# Altium schematic symbol library Gate_Driver.SchLib: 1 symbol
Pins are listed as number, name and electrical type; pins without a type are passive.

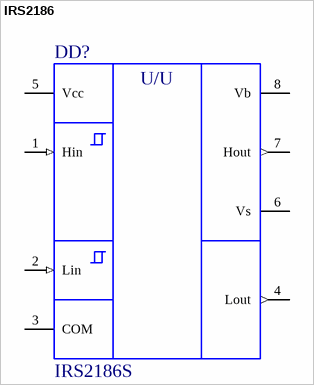
[diagram p0: symbol IRS2186]

## IRS2186
designator DD?, comment IRS2186S
High and Low Side Driver Iout=4A Uoffset=600V; ValueSch: IRS2186S
pins: 1 Hin (in) "High side input", 2 Lin (in) "Low side input", 3 COM (power) "GND", 4 Lout (out) "Low side output", 5 Vcc (power) "Power supply", 6 Vs (power) "High sige floating supply return", 7 Hout (out) "High side output", 8 Vb (power) "High side floating supply"
text: U/U